# Altium schematic symbol library 24-Interface接口.SchLib: 4 symbols
Pins are listed as number, name and electrical type; pins without a type are passive.

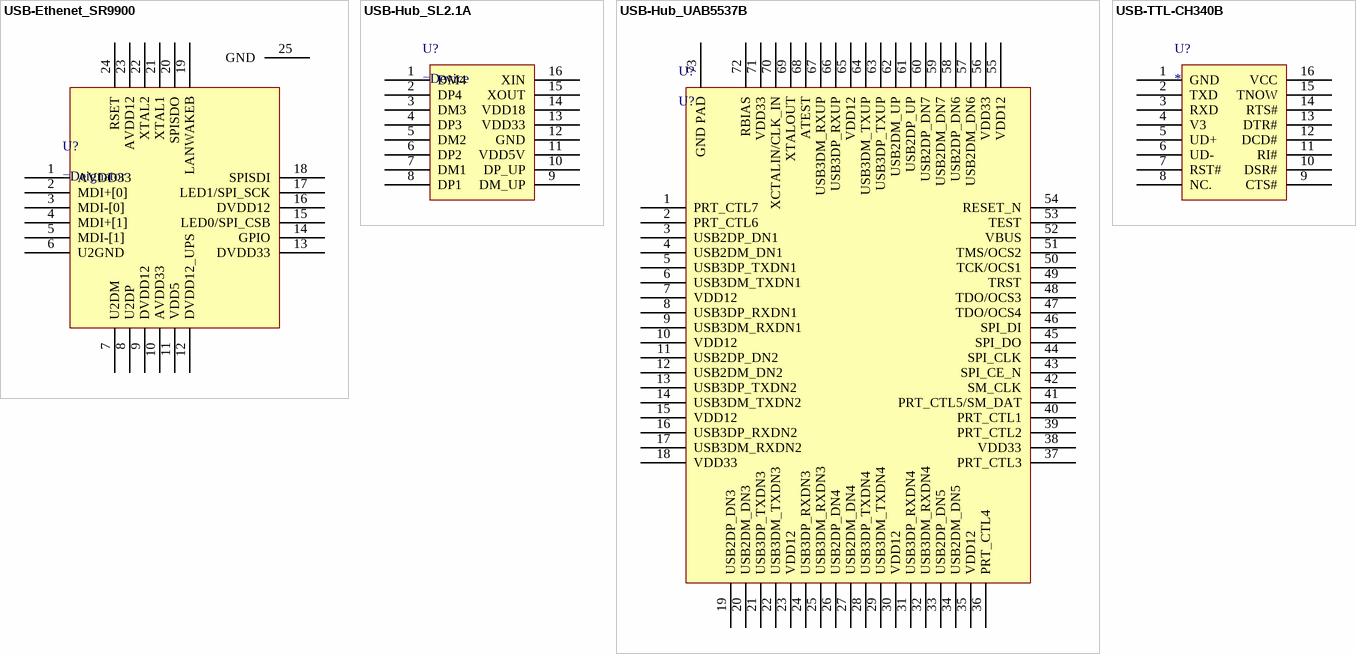
[diagram p0: symbols USB-Ethenet_SR9900 to USB-TTL-CH340B]

## USB-Ethenet_SR9900
designator U?
SR9900就是是一个高集成度、低功耗、单芯片USB2.0接口以太网控制芯片。 SR9900内部集成USB2.0收发器、100M以太网PHY模块、以太网MAC模块、内存控制模块、Efuse存储等。 完全兼容IEEE802.3u协议，并支持IEEE802.3x流量控制协议。 支持USB接口以太网适配器和CD-ROM复合设备，通过外接SPIFlash可实现USB接口以太网适配器自带驱动程序功能。 / SR9900低能耗表现非常好，支持休眠唤醒，非休眠状态，网络传输工作时，供电电压是3.3V，电流只有50mA;另外SR9900封装采用QFN24（4*4）封装，对layout空间来说也是一个很好的选型. / SR9900设计支持USB-CDC-ECM模式，使得他可以在Linux3.0.8之后的版本实现免驱使用（目前已经测试MacOS、Ubuntu、Llinux已经免驱）典型代表：苹果手机，苹果笔记本，华为手机，平板电脑，嵌入式系统等。
footprint QFN50P400X400X80_HS-25N (QFN, 24-Leads, Body 4.00x4.00mm, Pitch 0.50mm, Thermal Pad 2.70x2.70mm, IPC Medium Density)
pins: 1 AVDD33, 2 MDI+[0], 3 MDI-[0], 4 MDI+[1], 5 MDI-[1], 6 U2GND, 7 U2DM, 8 U2DP, 9 DVDD12, 10 AVDD33, 11 VDD5, 12 DVDD12_UPS, 13 DVDD33, 14 GPIO, 15 LED0/SPI_CSB, 16 DVDD12, 17 LED1/SPI_SCK, 18 SPISDI, 19 LANWAKEB, 20 SPISDO, 21 XTAL1, 22 XTAL2, 23 AVDD12, 24 RSET, 25 GND

## USB-Hub_SL2.1A
designator U?
采用 STT 技术,单电源供电方式，芯片供电电压为 5v, 内部集成 5V 转 3.3V,只需在外部电源添加滤波电容；芯片自带复位电路，低功耗技术让他更加出众。 / 芯片可以使用外部晶体，也可以使用内置晶体。如果使用内置晶体，需要将芯片的 XI 输入接地。 /  ■ 完美支持 USB2.0 高速(480MHz),USB2.0 全速(12MHz),和低速模式(1.5MHz) /  ■ 集成 12M 晶体振荡器 /  ■ 集成 12MHz-to-480MHz PPL(Phase Lock Loop) /  ■ 采用 Single Transaction Translator (STT)技术,是*TT系列中最具成本和效率方案 /  ■ 支持自供电到总线供电的自动枚举切换 /
footprint SOP16_150mil
pins: 1 DM4, 2 DP4, 3 DM3, 4 DP3, 5 DM2, 6 DP2, 7 DM1, 8 DP1, 9 DM_UP, 10 DP_UP, 11 VDD5V, 12 GND, 13 VDD33, 14 VDD18, 15 XOUT, 16 XIN

## USB-Hub_UAB5537B
designator U?, comment U?
7-Port SS/HS USB Hub Controller
footprint QFN50P1000X1000X85_HS-73N (QFN, 72-Leads, Body 10.00x10.00mm, Pitch 0.50mm, Thermal Pad 6.00x6.00mm, IPC Medium Density)
pins: 1 PRT_CTL7, 2 PRT_CTL6, 3 USB2DP_DN1, 4 USB2DM_DN1, 5 USB3DP_TXDN1, 6 USB3DM_TXDN1, 7 VDD12, 8 USB3DP_RXDN1, 9 USB3DM_RXDN1, 10 VDD12, 11 USB2DP_DN2, 12 USB2DM_DN2, 13 USB3DP_TXDN2, 14 USB3DM_TXDN2, 15 VDD12, 16 USB3DP_RXDN2, 17 USB3DM_RXDN2, 18 VDD33, 19 USB2DP_DN3, 20 USB2DM_DN3, 21 USB3DP_TXDN3, 22 USB3DM_TXDN3, 23 VDD12, 24 USB3DP_RXDN3, 25 USB3DM_RXDN3, 26 USB2DP_DN4, 27 USB2DM_DN4, 28 USB3DP_TXDN4, 29 USB3DM_TXDN4, 30 VDD12, 31 USB3DP_RXDN4, 32 USB3DM_RXDN4, 33 USB2DP_DN5, 34 USB2DM_DN5, 35 VDD12, 36 PRT_CTL4, 37 PRT_CTL3, 38 VDD33, 39 PRT_CTL2, 40 PRT_CTL1, 41 PRT_CTL5/SM_DAT, 42 SM_CLK, 43 SPI_CE_N, 44 SPI_CLK, 45 SPI_DO, 46 SPI_DI, 47 TDO/OCS4, 48 TDO/OCS3, 49 TRST, 50 TCK/OCS1, 51 TMS/OCS2, 52 VBUS, 53 TEST, 54 RESET_N, 55 VDD12, 56 VDD33, 57 USB2DM_DN6, 58 USB2DP_DN6, 59 USB2DM_DN7, 60 USB2DP_DN7, 61 USB2DP_UP, 62 USB2DM_UP, 63 USB3DP_TXUP, 64 USB3DM_TXUP, 65 VDD12, 66 USB3DP_RXUP, 67 USB3DM_RXUP, 68 ATEST, 69 XTALOUT, 70 XCTALIN/CLK_IN, 71 VDD33, 72 RBIAS, 73 GND PAD

## USB-TTL-CH340B
designator U?
● 全速 USB 设备接口，兼容 USB V2.0。 / ● 仿真标准串口，用于升级原串口外围设备，或者通过 USB 增加额外串口。 / ● 计算机端 Windows 操作系统下的串口应用程序完全兼容，无需修改。 / ● 硬件全双工串口，内置收发缓冲区，支持通讯波特率 50bps～2Mbps。 / ● 支持常用的 MODEM 联络信号 RTS、DTR、DCD、RI、DSR、CTS。 / ● 通过外加电平转换器件，提供 RS232、RS485、RS422 等接口。 / ● CH340R 芯片支持 IrDA 规范 SIR 红外线通讯，支持波特率 2400bps 到 115200bps。 / ● 软件兼容 CH341，可以直接使用 CH341 的驱动程序。 / ● 支持 5V 电源电压和 3.3V 电源电压甚至 3V 电源电压。 / ● CH340C 和 E 及 CH340B 内置时钟，无需外部晶振，CH340B 还内置 EEPROM 用于配置序列号等。 / ● 提供 SOP-16 和 SSOP-20 以及 MSOP-10 无铅封装，兼容 RoHS
footprint SOP16_150mil
pins: 1 GND, 2 TXD, 3 RXD, 4 V3, 5 UD+, 6 UD-, 7 RST#, 8 NC., 9 CTS#, 10 DSR#, 11 RI#, 12 DCD#, 13 DTR#, 14 RTS#, 15 TNOW, 16 VCC